# EAGLE library part FDMA (library fairchild)
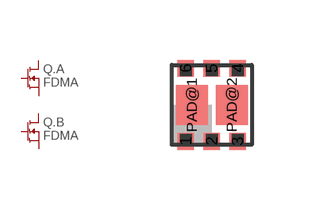
[diagram p0: symbol with the pads of MICROFET.2X2; footprint MICROFET.2X2]

Designator prefix Q; gates .A=MOSFET.N .B=MOSFET.N

## FDMA  [MICROFET.2X2]
1  .A:S
2  .A:G
3  .B:D
4  .B:S
5  .B:G
6  .A:D
PAD@1  .A:D
PAD@2  .B:D

## Footprint MICROFET.2X2 (pad centres in mm)
smd 0.42 x 0.42: 1 -0.65,-0.915; 2 0,-0.915; 3 0.65,-0.915; 4 0.65,0.915; 5 0,0.915; 6 -0.65,0.915
smd 0.8 x 1: PAD@1 -0.5,0; PAD@2 0.5,0